# EAGLE library part MCP4725 (library Microchip)
12-Bit D/A Converter with EEPROM Memory
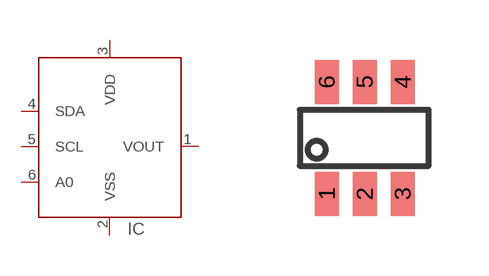
[diagram p8: symbol with the pads of SOT23-6-CH; footprint SOT23-6-CH]

Designator prefix IC

## MCP4725  [SOT23-6-CH]
1  VOUT
2  VSS
3  VDD
4  SDA
5  SCL
6  A0

## Footprint SOT23-6-CH (pad centres in mm)
6-Lead Plastic Small Outline Transistor (CH) [SOT-23]
smd 0.6 x 1.1: 1 -0.95,-1.4; 2 0,-1.4; 3 0.95,-1.4; 4 0.95,1.4; 5 0,1.4; 6 -0.95,1.4